# EAGLE library part AD8034ARZ (library AD8034ARZ)
AD8034ARZ, Dual Operational Amplifier Voltage Feedback, R-R 9 to 18V, 8-Pin SOIC Source: Datasheet <http://www.analog.com/static/imported-files/data_sheets/AD8033_8034.pdf>
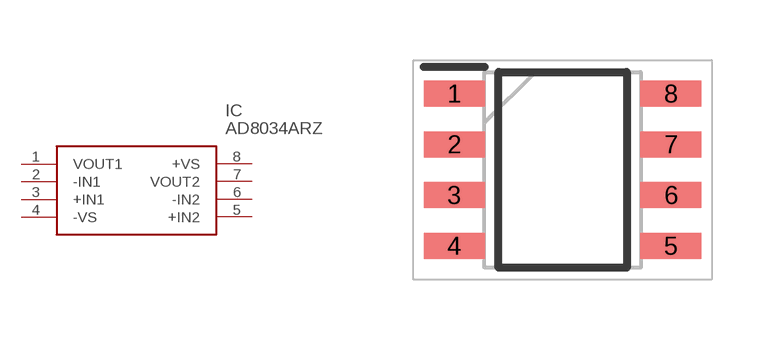
[diagram p0: symbol with the pads of SOIC127P600X175-8N; footprint SOIC127P600X175-8N]

Designator prefix IC

## AD8034ARZ (Arrow_Part_Number: AD8034ARZ; Arrow_Price-Stock: https://www.arrow.com/en/products/ad8034arz/analog-devices; Description: AD8034ARZ, Dual Operational Amplifier Voltage Feedback, R-R 9 to 18V, 8-Pin SOIC; Height: 1.75mm; Manufacturer_Name: Analog Devices; Manufacturer_Part_Number: AD8034ARZ; Mouser_Part_Number: 584-AD8034ARZ; Mouser_Price-Stock: https://www.mouser.co.uk/ProductDetail/Analog-Devices/AD8034ARZ?qs=%2FtpEQrCGXCxCfKJmQ9gqtw%3D%3D)  [SOIC127P600X175-8N]
1  VOUT1
2  -IN1
3  +IN1
4  -VS
5  +IN2
6  -IN2
7  VOUT2
8  +VS

## Footprint SOIC127P600X175-8N (pad centres in mm)
8 LEAD (SOIC_N)
smd 1.525 x 0.65: 1 -2.712,1.905; 2 -2.712,0.635; 3 -2.712,-0.635; 4 -2.712,-1.905; 5 2.712,-1.905; 6 2.712,-0.635; 7 2.712,0.635; 8 2.712,1.905